# EAGLE library part NL37WZ17 (library IC)
Triple Noninverting Schmitt-Trigger Buffer operating from 1.65V to 5.5V
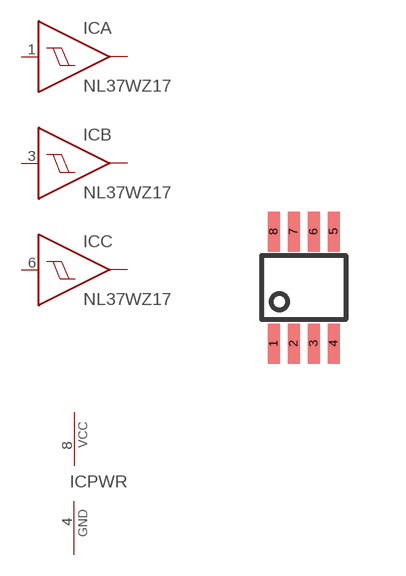
[diagram p30: symbol with the pads of US8; footprint US8]

Designator prefix IC; gates PWR=PWR-VCC-GND A=BUFS B=BUFS C=BUFS

## NL37WZ17US  [US8]
1  A:I  in
2  C:OUT  out
3  B:I  in
4  PWR:GND  pwr
5  B:OUT  out
6  C:I  in
7  A:OUT  out
8  PWR:VCC  pwr

## Footprint US8 (pad centres in mm)
smd 0.3 x 1: 1 -0.7,-1.4; 2 -0.2,-1.4; 3 0.3,-1.4; 4 0.8,-1.4; 5 0.8,1.4; 6 0.3,1.4; 7 -0.2,1.4; 8 -0.7,1.4